# Altium footprint library LPEDT_proj_lib.PcbLib: 37 footprints (part 3 of 3)
Each footprint in its own frame and in the unit in brackets; x right, y up, seen from the top. Pads: shape width x height; smd on the part's side, far side on the other; paste and mask are expansions set on the pad; w line width, h text height; cw(c..) or ccw(c..) is an arc to the next point about the centre after c.
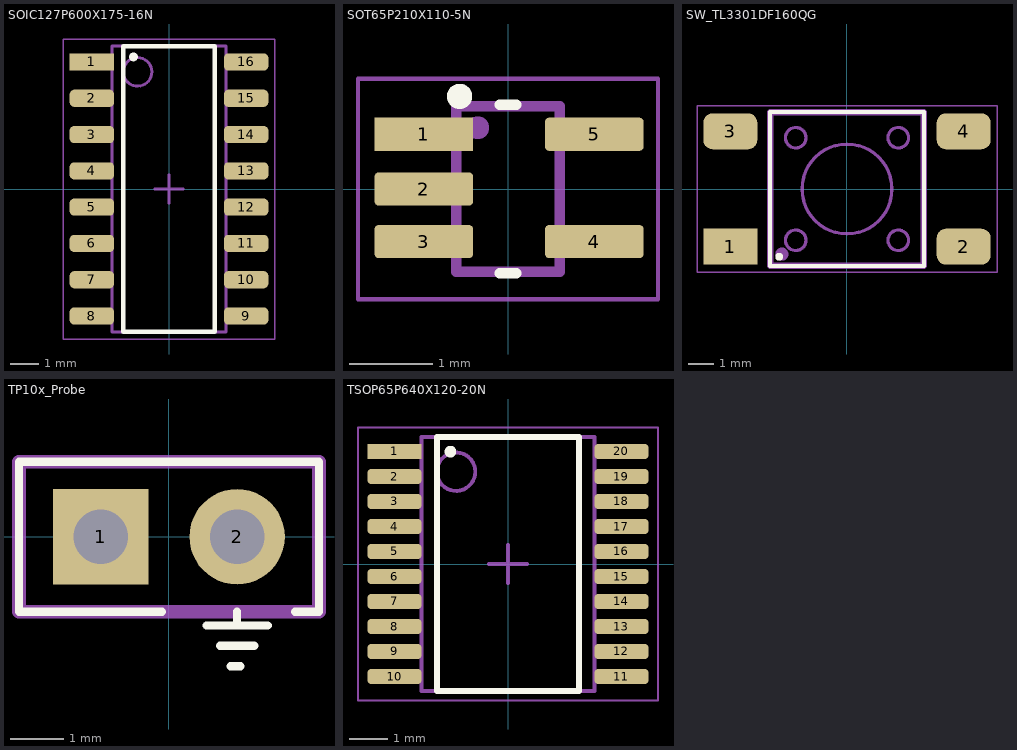
[diagram p2: the footprints below, top view; thin cyan lines are the x and y axes]

## SOIC127P600X175-16N [mm] "SOIC, 16-Leads, Body 9.90x3.90mm, Pitch 1.27mm, IPC Medium Density"
height 1.75
pads (16):
  rect 1.55x0.6 smd: 1(-2.7,4.445)
  rrect50% 1.55x0.6 smd: 2(-2.7,3.175) 3(-2.7,1.905) 4(-2.7,0.635) 5(-2.7,-0.635) 6(-2.7,-1.905) 7(-2.7,-3.175) 8(-2.7,-4.445) 9(2.7,-4.445) 10(2.7,-3.175) 11(2.7,-1.905) 12(2.7,-0.635) 13(2.7,0.635) 14(2.7,1.905) 15(2.7,3.175) 16(2.7,4.445)
Top Overlay:
  circle w0.152: c-1.245,4.623 r0.076
  lines w0.152: -1.6,-5 1.6,-5 1.6,5 -1.6,5 -1.6,-5
Mechanical 13:
  circle w0.1: c-1.1,4.1 r0.5
  lines w0.1: -2,-5 2,-5 2,5 -2,5 -2,-5
  text ".Designator" at -1.245,-4.369 h0.91
Mechanical 15:
  lines w0.05: -3.7,-5.25 3.7,-5.25 3.7,5.25 -3.7,5.25 -3.7,-5.25
  lines w0.1: -0.5,0 0.5,0 ; 0,-0.5 0,0.5
3D body "SOIC127P600X175-16N.step": height 1.75, standoff 0, extent -3,-5 3,5

## SOT65P210X110-5N [mm]
pads (5):
  rect 1.19x0.4 smd mask+0.051: 1(-1.016,0.66)
  rrect25% 1.19x0.4 smd mask+0.051: 2(-1.016,0) 3(-1.016,-0.635) 4(1.041,-0.635) 5(1.041,0.66)
Top Overlay:
  circle w0.152: c-0.584,1.118 r0.076
  lines w0.127: -0.102,1.016 0.098,1.016 ; -0.098,-1.016 0.102,-1.016
Mechanical 13:
  circle w0.254: c-0.365,0.739 r0.009
  lines w0.127: -0.625,-1 0.625,-1 0.625,1 -0.625,1 -0.625,-1
  text ".Designator" at -0.356,-0.779 h0.64
Mechanical 15:
  lines w0.05: -1.81,-1.33 1.81,-1.33 1.81,1.33 -1.81,1.33 -1.81,-1.33
3D body "TPS22942DCKR.STEP": height 1.1, standoff 0, extent -1.05,-1 1.05,1

## SW_TL3301DF160QG [mm]
pads (4):
  rect 2.1x1.4 smd: 1(-4.55,-2.25)
  rrect50% 2.1x1.4 smd: 2(4.55,-2.25) 3(-4.55,2.25) 4(4.55,2.25)
Top Overlay:
  circle w0.152: c-2.642,-2.642 r0.076
  lines w0.152: -3,-3 -3,3 3,3 3,-3 -3,-3
Mechanical 13:
  circle w0.127: c0,0 r1.75
  circle w0.127: c-2,2 r0.4
  circle w0.127: c2,2 r0.4
  circle w0.127: c-2,-2 r0.4
  circle w0.127: c2,-2 r0.4
  circle w0.254: c-2.54,-2.54 r0.127
  lines w0.127: -3,-3 -3,3 3,3 3,-3 -3,-3
  lines w0.254: -3,-3 3,-3 3,3 -3,3 -3,-3
  text ".Designator" at -2.667,-1.482 h1.27
Mechanical 15:
  lines w0.05: -5.85,-3.25 5.85,-3.25 5.85,3.25 -5.85,3.25 -5.85,-3.25
3D body "TL3301DFxxxxG.stp": height 13.08, standoff -0.02, extent -5,-3 5,3

## TP10x_Probe [mil] "Small Probs footprint"
pads (2):
  rect 70x70 hole 40: 1(-50,0)
  round 70 hole 40: 2(50,0)
Top Overlay:
  lines w6: -5,-55 -110,-55 -110,55 110.04,55 110.04,-55 92.42,-55 ; 27.5,-65 72.5,-65 ; 37.5,-80 62.5,-80 ; 45.23,-95 52.5,-95 ; 50,-65 50,-54.73
Mechanical 13:
  lines w10: -110,-55 -110,55 110,55 110,-55 -110,-55
  text ".Designator" at -90,-33.34 h50

## TSOP65P640X120-20N [mm] "TSOP, 20-Leads, Body 6.50x4.40mm, Pitch 0.65mm, IPC Medium Density"
height 1.2
pads (20):
  rect 1.4x0.4 smd: 1(-2.95,2.925)
  rrect50% 1.4x0.4 smd: 2(-2.95,2.275) 3(-2.95,1.625) 4(-2.95,0.975) 5(-2.95,0.325) 6(-2.95,-0.325) 7(-2.95,-0.975) 8(-2.95,-1.625) 9(-2.95,-2.275) 10(-2.95,-2.925) 11(2.95,-2.925) 12(2.95,-2.275) 13(2.95,-1.625) 14(2.95,-0.975) 15(2.95,-0.325) 16(2.95,0.325) 17(2.95,0.975) 18(2.95,1.625) 19(2.95,2.275) 20(2.95,2.925)
Top Overlay:
  circle w0.152: c-1.499,2.921 r0.076
  lines w0.152: -1.85,-3.3 -1.85,3.3 1.85,3.3 1.85,-3.3 -1.85,-3.3
Mechanical 13:
  circle w0.1: c-1.35,2.4 r0.5
  lines w0.1: -2.25,-3.3 -2.25,3.3 2.25,3.3 2.25,-3.3 -2.25,-3.3
  text ".Designator" at -1.524,-2.173 h1.1
Mechanical 15:
  lines w0.05: -3.9,-3.55 -3.9,3.55 3.9,3.55 3.9,-3.55 -3.9,-3.55
  lines w0.1: -0.5,0 0.5,0 ; 0,-0.5 0,0.5
3D body "TSOP65P640X120-20N.step": height 1.2, standoff 0, extent -3.2,-3.3 3.2,3.3